# EAGLE library part VIPER16 (library st-microelectronics)
IC OFFLINE CONV PWM OTP
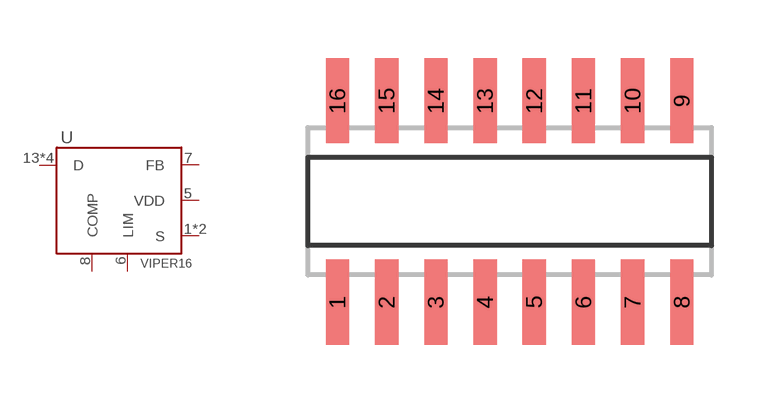
[diagram p40: symbol with the pads of SO16; footprint SO16]

Designator prefix U

## VIPER16 (DIGIKEY: 497-8829-1-ND)  [SO16]
1  S
2  S
5  VDD
6  LIM
7  FB
8  COMP
13  D
14  D
15  D
16  D

## Footprint SO16 (pad centres in mm)
SMALL OUTLINE INTEGRATED CIRCUIT body 3.9 mm/JEDEC MS-012AC
smd 0.6 x 2.2: 1 -4.445,-2.6; 2 -3.175,-2.6; 3 -1.905,-2.6; 4 -0.635,-2.6; 5 0.635,-2.6; 6 1.905,-2.6; 7 3.175,-2.6; 8 4.445,-2.6; 9 4.445,2.6; 10 3.175,2.6; 11 1.905,2.6; 12 0.635,2.6; 13 -0.635,2.6; 14 -1.905,2.6; 15 -3.175,2.6; 16 -4.445,2.6